# Altium footprint library WR-TBL_Spring Clamp_7.62mm.PcbLib: 43 footprints (part 2 of 3)
Each footprint in its own frame and in the unit in brackets; x right, y up, seen from the top. Pads: shape width x height; smd on the part's side, far side on the other; paste and mask are expansions set on the pad; w line width, h text height; cw(c..) or ccw(c..) is an arc to the next point about the centre after c.
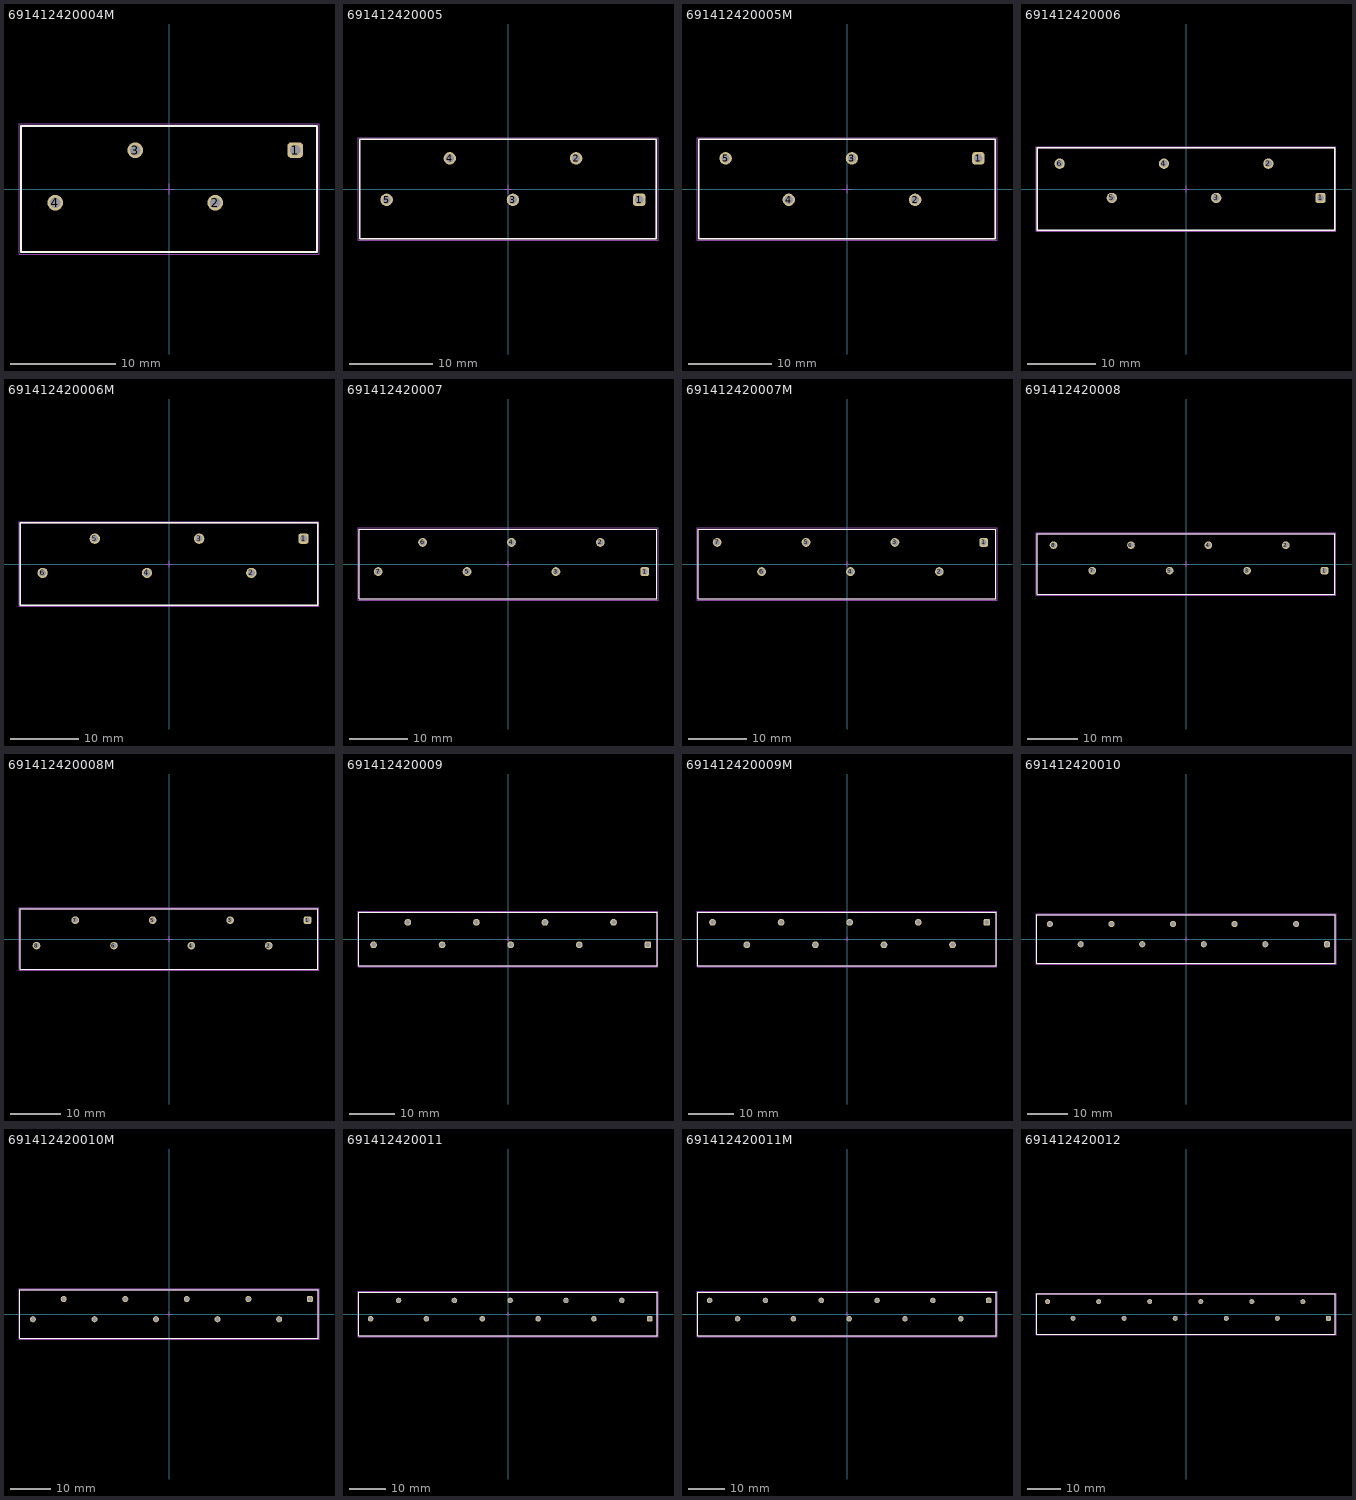
[diagram p1: the footprints below, top view; thin cyan lines are the x and y axes]

## 691412420004M [mm] "7.62 mm Screwless 45deg Entry, 4p"
height 13.2
pads (4):
  rrect50% 1.5x1.5 hole 1: 1(12.025,3.7)
  round 1.5 hole 1: 2(4.405,-1.3) 3(-3.215,3.7) 4(-10.835,-1.3)
Top Overlay:
  lines w0.2: -14.085,-6 -14.085,6 14.085,6 14.085,-6 -14.085,-6
Top Assembly:
  lines w0.1: -14.085,-6 14.085,-6 14.085,6 -14.085,6 -14.085,-6
Top Designator:
  text ".Designator" at -3.647,-0.357 h1
Top 3D Body:
  lines w0.1: -14.085,-6 -14.085,6 14.085,6 14.085,-6 -14.085,-6
Top Courtyard:
  lines w0.05: -14.285,-6.2 -14.285,6.2 14.285,6.2 14.285,-6.2 -14.285,-6.2
Top Component Center:
  lines w0.1: -0.5,0 0.5,0 ; 0,-0.5 0,0.5
3D body "691412420004M.stp": height 13.28, standoff -3.52, extent -14.085,-6 14.085,6

## 691412420005 [mm] "7.62mm 45deg Cable Entry Screwless, 5p"
height 13.2
pads (5):
  rrect50% 1.5x1.5 hole 1: 1(15.835,-1.3)
  round 1.5 hole 1: 2(8.215,3.7) 3(0.595,-1.3) 4(-7.025,3.7) 5(-14.645,-1.3)
Top Overlay:
  lines w0.2: -17.895,-6 -17.895,6 17.895,6 17.895,-6 -17.895,-6
Top Assembly:
  lines w0.1: -17.895,-6 17.895,-6 17.895,6 -17.895,6 -17.895,-6
Top Designator:
  text ".Designator" at -3.647,-0.357 h1
Top 3D Body:
  lines w0.1: -17.895,-6 -17.895,6 17.895,6 17.895,-6 -17.895,-6
Top Courtyard:
  lines w0.05: -18.095,-6.2 -18.095,6.2 18.095,6.2 18.095,-6.2 -18.095,-6.2
Top Component Center:
  lines w0.1: -0.5,0 0.5,0 ; 0,-0.5 0,0.5
3D body "691412420005.stp": height 13.28, standoff -3.52, extent -17.895,-6 17.895,6

## 691412420005M [mm] "7.62 mm Screwless 45deg Entry, 5p"
height 13.2
pads (5):
  rrect50% 1.5x1.5 hole 1: 1(15.835,3.7)
  round 1.5 hole 1: 2(8.215,-1.3) 3(0.595,3.7) 4(-7.025,-1.3) 5(-14.645,3.7)
Top Overlay:
  lines w0.2: -17.895,-6 -17.895,6 17.895,6 17.895,-6 -17.895,-6
Top Assembly:
  lines w0.1: -17.895,-6 17.895,-6 17.895,6 -17.895,6 -17.895,-6
Top Designator:
  text ".Designator" at -3.647,-0.357 h1
Top 3D Body:
  lines w0.1: -17.895,-6 -17.895,6 17.895,6 17.895,-6 -17.895,-6
Top Courtyard:
  lines w0.05: -18.095,-6.2 -18.095,6.2 18.095,6.2 18.095,-6.2 -18.095,-6.2
Top Component Center:
  lines w0.1: -0.5,0 0.5,0 ; 0,-0.5 0,0.5
3D body "691412420005M.stp": height 13.28, standoff -3.52, extent -17.895,-6 17.895,6

## 691412420006 [mm] "7.62mm 45deg Cable Entry Screwless, 6p"
height 13.2
pads (6):
  rrect50% 1.5x1.5 hole 1: 1(19.645,-1.3)
  round 1.5 hole 1: 2(12.025,3.7) 3(4.405,-1.3) 4(-3.215,3.7) 5(-10.835,-1.3) 6(-18.455,3.7)
Top Overlay:
  lines w0.2: -21.705,-6 21.705,-6 21.705,6 -21.705,6 -21.705,-6
Top Assembly:
  lines w0.1: -21.705,-6 -21.705,6 21.705,6 21.705,-6 -21.705,-6
Top Designator:
  text ".Designator" at -3.647,-0.357 h1
Top 3D Body:
  lines w0.1: -21.705,-6 21.705,-6 21.705,6 -21.705,6 -21.705,-6
Top Courtyard:
  lines w0.05: -21.905,-6.2 21.905,-6.2 21.905,6.2 -21.905,6.2 -21.905,-6.2
Top Component Center:
  lines w0.1: -0.5,0 0.5,0 ; 0,-0.5 0,0.5
3D body "691412420006.stp": height 13.28, standoff -3.52, extent -21.705,-6 21.705,6

## 691412420006M [mm] "7.62 mm Screwless 45deg Entry, 6p"
height 13.2
pads (6):
  rrect50% 1.5x1.5 hole 1: 1(19.645,3.7)
  round 1.5 hole 1: 2(12.025,-1.3) 3(4.405,3.7) 4(-3.215,-1.3) 5(-10.835,3.7) 6(-18.455,-1.3)
Top Overlay:
  lines w0.2: -21.705,-6 21.705,-6 21.705,6 -21.705,6 -21.705,-6
Top Assembly:
  lines w0.1: -21.705,-6 -21.705,6 21.705,6 21.705,-6 -21.705,-6
Top Designator:
  text ".Designator" at -3.647,-0.357 h1
Top 3D Body:
  lines w0.1: -21.705,-6 21.705,-6 21.705,6 -21.705,6 -21.705,-6
Top Courtyard:
  lines w0.05: -21.905,-6.2 21.905,-6.2 21.905,6.2 -21.905,6.2 -21.905,-6.2
Top Component Center:
  lines w0.1: -0.5,0 0.5,0 ; 0,-0.5 0,0.5
3D body "691412420006M.stp": height 13.28, standoff -3.52, extent -21.705,-6 21.705,6

## 691412420007 [mm] "7.62mm 45deg Cable Entry Screwless, 7p"
height 13.2
pads (7):
  rrect50% 1.5x1.5 hole 1: 1(23.455,-1.3)
  round 1.5 hole 1: 2(15.835,3.7) 3(8.215,-1.3) 4(0.595,3.7) 5(-7.025,-1.3) 6(-14.645,3.7) 7(-22.265,-1.3)
Top Overlay:
  lines w0.2: -25.515,-6 -25.515,6 25.515,6 25.515,-6 -25.515,-6
Top Assembly:
  lines w0.1: -25.515,-6 25.515,-6 25.515,6 -25.515,6 -25.515,-6
Top Designator:
  text ".Designator" at -3.647,-0.357 h1
Top 3D Body:
  lines w0.1: -25.515,-6 -25.515,6 25.515,6 25.515,-6 -25.515,-6
Top Courtyard:
  lines w0.05: -25.715,-6.2 -25.715,6.2 25.715,6.2 25.715,-6.2 -25.715,-6.2
Top Component Center:
  lines w0.1: -0.5,0 0.5,0 ; 0,-0.5 0,0.5
3D body "691412420007.stp": height 13.28, standoff -3.52, extent -25.515,-6 25.515,6

## 691412420007M [mm] "7.62 mm Screwless 45deg Entry, 7p"
height 13.2
pads (7):
  rrect50% 1.5x1.5 hole 1: 1(23.455,3.7)
  round 1.5 hole 1: 2(15.835,-1.3) 3(8.215,3.7) 4(0.595,-1.3) 5(-7.025,3.7) 6(-14.645,-1.3) 7(-22.265,3.7)
Top Overlay:
  lines w0.2: -25.515,-6 25.515,-6 25.515,6 -25.515,6 -25.515,-6
Top Assembly:
  lines w0.1: -25.515,-6 -25.515,6 25.515,6 25.515,-6 -25.515,-6
Top Designator:
  text ".Designator" at -3.647,-0.357 h1
Top 3D Body:
  lines w0.1: -25.515,-6 25.515,-6 25.515,6 -25.515,6 -25.515,-6
Top Courtyard:
  lines w0.05: -25.715,-6.2 25.715,-6.2 25.715,6.2 -25.715,6.2 -25.715,-6.2
Top Component Center:
  lines w0.1: -0.5,0 0.5,0 ; 0,-0.5 0,0.5
3D body "691412420007M.stp": height 13.28, standoff -3.52, extent -25.515,-6 25.515,6

## 691412420008 [mm] "7.62mm 45deg Cable Entry Screwless, 8p"
height 13.2
pads (8):
  rrect50% 1.5x1.5 hole 1: 1(27.265,-1.3)
  round 1.5 hole 1: 2(19.645,3.7) 3(12.025,-1.3) 4(4.405,3.7) 5(-3.215,-1.3) 6(-10.835,3.7) 7(-18.455,-1.3) 8(-26.075,3.7)
Top Overlay:
  lines w0.2: -29.325,-6 -29.325,6 29.325,6 29.325,-6 -29.325,-6
Top Assembly:
  lines w0.1: -29.325,-6 29.325,-6 29.325,6 -29.325,6 -29.325,-6
Top Designator:
  text ".Designator" at -3.647,-0.357 h1
Top 3D Body:
  lines w0.1: -29.325,-6 -29.325,6 29.325,6 29.325,-6 -29.325,-6
Top Courtyard:
  lines w0.05: -29.525,-6.2 -29.525,6.2 29.525,6.2 29.525,-6.2 -29.525,-6.2
Top Component Center:
  lines w0.1: -0.5,0 0.5,0 ; 0,-0.5 0,0.5
3D body "691412420008.stp": height 13.28, standoff -3.52, extent -29.325,-6 29.325,6

## 691412420008M [mm] "7.62 mm Screwless 45deg Entry, 8p"
height 13.2
pads (8):
  rrect50% 1.5x1.5 hole 1: 1(27.265,3.7)
  round 1.5 hole 1: 2(19.645,-1.3) 3(12.025,3.7) 4(4.405,-1.3) 5(-3.215,3.7) 6(-10.835,-1.3) 7(-18.455,3.7) 8(-26.075,-1.3)
Top Overlay:
  lines w0.2: -29.325,-6 29.325,-6 29.325,6 -29.325,6 -29.325,-6
Top Assembly:
  lines w0.1: -29.325,-6 -29.325,6 29.325,6 29.325,-6 -29.325,-6
Top Designator:
  text ".Designator" at -3.647,-0.357 h1
Top 3D Body:
  lines w0.1: -29.325,-6 29.325,-6 29.325,6 -29.325,6 -29.325,-6
Top Courtyard:
  lines w0.05: -29.525,-6.2 29.525,-6.2 29.525,6.2 -29.525,6.2 -29.525,-6.2
Top Component Center:
  lines w0.1: -0.5,0 0.5,0 ; 0,-0.5 0,0.5
3D body "691412420008M.stp": height 13.28, standoff -3.52, extent -29.325,-6 29.325,6

## 691412420009 [mm] "7.62mm 45deg Cable Entry Screwless, 9p"
height 13.2
pads (9):
  rrect50% 1.5x1.5 hole 1: 1(31.075,-1.3)
  round 1.5 hole 1: 2(23.455,3.7) 3(15.835,-1.3) 4(8.215,3.7) 5(0.595,-1.3) 6(-7.025,3.7) 7(-14.645,-1.3) 8(-22.265,3.7) 9(-29.885,-1.3)
Top Overlay:
  lines w0.2: -33.135,-6 -33.135,6 33.135,6 33.135,-6 -33.135,-6
Top Assembly:
  lines w0.1: -33.135,-6 33.135,-6 33.135,6 -33.135,6 -33.135,-6
Top Designator:
  text ".Designator" at -3.647,-0.357 h1
Top 3D Body:
  lines w0.1: -33.135,-6 -33.135,6 33.135,6 33.135,-6 -33.135,-6
Top Courtyard:
  lines w0.05: -33.335,-6.2 -33.335,6.2 33.335,6.2 33.335,-6.2 -33.335,-6.2
Top Component Center:
  lines w0.1: -0.5,0 0.5,0 ; 0,-0.5 0,0.5
3D body "691412420009.stp": height 13.28, standoff -3.52, extent -33.135,-6 33.135,6

## 691412420009M [mm] "7.62 mm Screwless 45deg Entry, 9p"
height 13.2
pads (9):
  rrect50% 1.5x1.5 hole 1: 1(31.075,3.7)
  round 1.5 hole 1: 2(23.455,-1.3) 3(15.835,3.7) 4(8.215,-1.3) 5(0.595,3.7) 6(-7.025,-1.3) 7(-14.645,3.7) 8(-22.265,-1.3) 9(-29.885,3.7)
Top Overlay:
  lines w0.2: -33.135,-6 -33.135,6 33.135,6 33.135,-6 -33.135,-6
Top Assembly:
  lines w0.1: -33.135,-6 33.135,-6 33.135,6 -33.135,6 -33.135,-6
Top Designator:
  text ".Designator" at -3.647,-0.357 h1
Top 3D Body:
  lines w0.1: -33.135,-6 -33.135,6 33.135,6 33.135,-6 -33.135,-6
Top Courtyard:
  lines w0.05: -33.335,-6.2 -33.335,6.2 33.335,6.2 33.335,-6.2 -33.335,-6.2
Top Component Center:
  lines w0.1: -0.5,0 0.5,0 ; 0,-0.5 0,0.5
3D body "691412420009M.stp": height 13.28, standoff -3.52, extent -33.135,-6 33.135,6

## 691412420010 [mm] "7.62mm 45deg Cable Entry Screwless, 10p"
height 13.2
pads (10):
  rrect50% 1.5x1.5 hole 1: 1(34.885,-1.3)
  round 1.5 hole 1: 2(27.265,3.7) 3(19.645,-1.3) 4(12.025,3.7) 5(4.405,-1.3) 6(-3.215,3.7) 7(-10.835,-1.3) 8(-18.455,3.7) 9(-26.075,-1.3) 10(-33.695,3.7)
Top Overlay:
  lines w0.2: -36.945,-6 36.945,-6 36.945,6 -36.945,6 -36.945,-6
Top Assembly:
  lines w0.1: -36.945,-6 -36.945,6 36.945,6 36.945,-6 -36.945,-6
Top Designator:
  text ".Designator" at -3.647,-0.357 h1
Top 3D Body:
  lines w0.1: -36.945,-6 36.945,-6 36.945,6 -36.945,6 -36.945,-6
Top Courtyard:
  lines w0.05: -37.145,-6.2 37.145,-6.2 37.145,6.2 -37.145,6.2 -37.145,-6.2
Top Component Center:
  lines w0.1: -0.5,0 0.5,0 ; 0,-0.5 0,0.5
3D body "691412420010.stp": height 13.28, standoff -3.52, extent -36.945,-6 36.945,6

## 691412420010M [mm] "7.62 mm Screwless 45deg Entry, 10p"
height 13.2
pads (10):
  rrect50% 1.5x1.5 hole 1: 1(34.885,3.7)
  round 1.5 hole 1: 2(27.265,-1.3) 3(19.645,3.7) 4(12.025,-1.3) 5(4.405,3.7) 6(-3.215,-1.3) 7(-10.835,3.7) 8(-18.455,-1.3) 9(-26.075,3.7) 10(-33.695,-1.3)
Top Overlay:
  lines w0.2: -36.945,-6 36.945,-6 36.945,6 -36.945,6 -36.945,-6
Top Assembly:
  lines w0.1: -36.945,-6 -36.945,6 36.945,6 36.945,-6 -36.945,-6
Top Designator:
  text ".Designator" at -3.647,-0.357 h1
Top 3D Body:
  lines w0.1: -36.945,-6 36.945,-6 36.945,6 -36.945,6 -36.945,-6
Top Courtyard:
  lines w0.05: -37.145,-6.2 37.145,-6.2 37.145,6.2 -37.145,6.2 -37.145,-6.2
Top Component Center:
  lines w0.1: -0.5,0 0.5,0 ; 0,-0.5 0,0.5
3D body "691412420010M.stp": height 13.28, standoff -3.52, extent -36.945,-6 36.945,6

## 691412420011 [mm] "7.62mm 45deg Cable Entry Screwless, 11p"
height 13.2
pads (11):
  rrect50% 1.5x1.5 hole 1: 1(38.695,-1.3)
  round 1.5 hole 1: 2(31.075,3.7) 3(23.455,-1.3) 4(15.835,3.7) 5(8.215,-1.3) 6(0.595,3.7) 7(-7.025,-1.3) 8(-14.645,3.7) 9(-22.265,-1.3) 10(-29.885,3.7) 11(-37.505,-1.3)
Top Overlay:
  lines w0.2: -40.755,-6 40.755,-6 40.755,6 -40.755,6 -40.755,-6
Top Assembly:
  lines w0.1: -40.755,-6 -40.755,6 40.755,6 40.755,-6 -40.755,-6
Top Designator:
  text ".Designator" at -3.647,-0.357 h1
Top 3D Body:
  lines w0.1: -40.755,-6 40.755,-6 40.755,6 -40.755,6 -40.755,-6
Top Courtyard:
  lines w0.05: -40.955,-6.2 40.955,-6.2 40.955,6.2 -40.955,6.2 -40.955,-6.2
Top Component Center:
  lines w0.1: -0.5,0 0.5,0 ; 0,-0.5 0,0.5
3D body "691412420011.stp": height 13.28, standoff -3.52, extent -40.755,-6 40.755,6

## 691412420011M [mm] "7.62 mm Screwless 45deg Entry, 11p"
height 13.2
pads (11):
  rrect50% 1.5x1.5 hole 1: 1(38.695,3.7)
  round 1.5 hole 1: 2(31.075,-1.3) 3(23.455,3.7) 4(15.835,-1.3) 5(8.215,3.7) 6(0.595,-1.3) 7(-7.025,3.7) 8(-14.645,-1.3) 9(-22.265,3.7) 10(-29.885,-1.3) 11(-37.505,3.7)
Top Overlay:
  lines w0.2: -40.755,-6 -40.755,6 40.755,6 40.755,-6 -40.755,-6
Top Assembly:
  lines w0.1: -40.755,-6 40.755,-6 40.755,6 -40.755,6 -40.755,-6
Top Designator:
  text ".Designator" at -3.647,-0.357 h1
Top 3D Body:
  lines w0.1: -40.755,-6 -40.755,6 40.755,6 40.755,-6 -40.755,-6
Top Courtyard:
  lines w0.05: -40.955,-6.2 -40.955,6.2 40.955,6.2 40.955,-6.2 -40.955,-6.2
Top Component Center:
  lines w0.1: -0.5,0 0.5,0 ; 0,-0.5 0,0.5
3D body "691412420011M.stp": height 13.28, standoff -3.52, extent -40.755,-6 40.755,6

## 691412420012 [mm] "7.62mm 45deg Cable Entry Screwless, 12p"
height 13.2
pads (12):
  rrect50% 1.5x1.5 hole 1: 1(42.505,-1.3)
  round 1.5 hole 1: 2(34.885,3.7) 3(27.265,-1.3) 4(19.645,3.7) 5(12.025,-1.3) 6(4.405,3.7) 7(-3.215,-1.3) 8(-10.835,3.7) 9(-18.455,-1.3) 10(-26.075,3.7) 11(-33.695,-1.3) 12(-41.315,3.7)
Top Overlay:
  lines w0.2: -44.565,-6 44.565,-6 44.565,6 -44.565,6 -44.565,-6
Top Assembly:
  lines w0.1: -44.565,-6 -44.565,6 44.565,6 44.565,-6 -44.565,-6
Top Designator:
  text ".Designator" at -3.647,-0.357 h1
Top 3D Body:
  lines w0.1: -44.565,-6 44.565,-6 44.565,6 -44.565,6 -44.565,-6
Top Courtyard:
  lines w0.05: -44.765,-6.2 44.765,-6.2 44.765,6.2 -44.765,6.2 -44.765,-6.2
Top Component Center:
  lines w0.1: -0.5,0 0.5,0 ; 0,-0.5 0,0.5
3D body "691412420012.stp": height 13.28, standoff -3.52, extent -44.565,-6 44.565,6